# EAGLE library part ADG707 (library HelaTronix - IC Special Functions)
CMOS 5V Differential 8 Channel Multiplexer
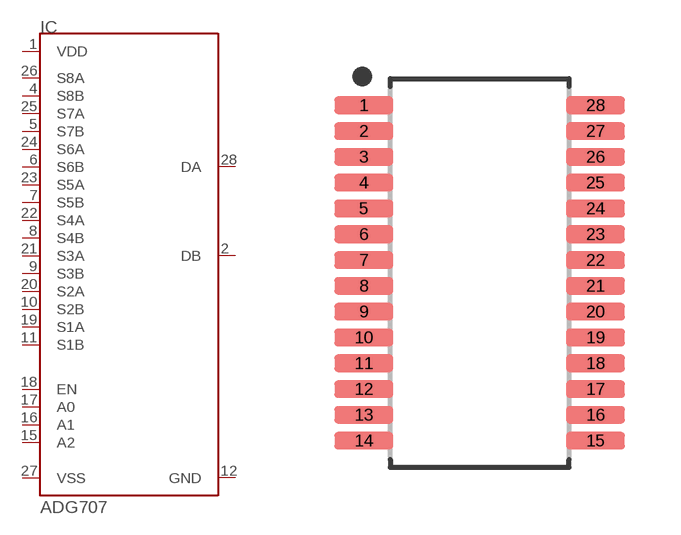
[diagram p2: symbol with the pads of TSSOP065-28N; footprint TSSOP065-28N]

Designator prefix IC

## ADG707 (LCSC#: C246080; LCSC_LINK: https://lcsc.com/product-detail/Analog-Switches_Analog-Devices_ADG707BRUZ-REEL7_Analog-Devices-ADI-LINEAR-ADG707BRUZ-REEL7_C246080.html; MANUFACTURER: Analog Devices; MFR#: ADG707BRUZ)  [TSSOP065-28N]
1  VDD
2  DB
4  S8B
5  S7B
6  S6B
7  S5B
8  S4B
9  S3B
10  S2B
11  S1B
12  GND
15  A2
16  A1
17  A0
18  EN
19  S1A
20  S2A
21  S3A
22  S4A
23  S5A
24  S6A
25  S7A
26  S8A
27  VSS
28  DA

## Footprint TSSOP065-28N (pad centres in mm)
28-SOP, 0.65 mm pitch, 6.50 mm span, 9.70 X 4.40 X 1.20 mm body 28-pin SOP package with 0.65 mm pitch, 6.50 mm span with body size 9.70 X 4.40 X 1.20 mm
smd 1.488 x 0.445: 1 -2.92,4.225; 2 -2.92,3.575; 3 -2.92,2.925; 4 -2.92,2.275; 5 -2.92,1.625; 6 -2.92,0.975; 7 -2.92,0.325; 8 -2.92,-0.325; 9 -2.92,-0.975; 10 -2.92,-1.625; 11 -2.92,-2.275; 12 -2.92,-2.925; 13 -2.92,-3.575; 14 -2.92,-4.225; 15 2.92,-4.225; 16 2.92,-3.575; 17 2.92,-2.925; 18 2.92,-2.275; 19 2.92,-1.625; 20 2.92,-0.975; 21 2.92,-0.325; 22 2.92,0.325; 23 2.92,0.975; 24 2.92,1.625; 25 2.92,2.275; 26 2.92,2.925; 27 2.92,3.575; 28 2.92,4.225